# Altium footprint library BLE112.PcbLib: 1 footprints
Each footprint in its own frame and in the unit in brackets; x right, y up, seen from the top. Pads: shape width x height; smd on the part's side, far side on the other; paste and mask are expansions set on the pad; w line width, h text height; cw(c..) or ccw(c..) is an arc to the next point about the centre after c.
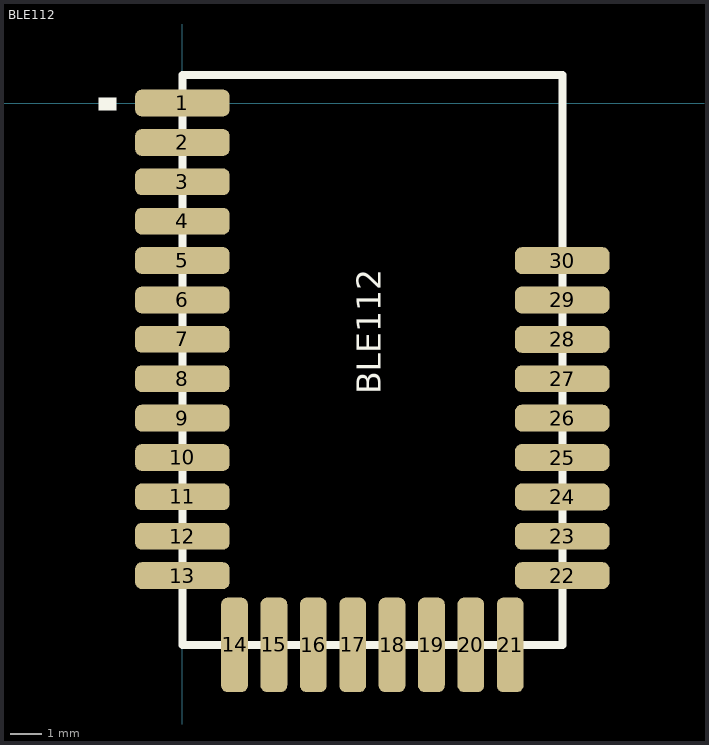
[diagram p0: the footprint, top view; thin cyan lines are the x and y axes]

## BLE112 [mm]
pads (30):
  rrect50% 3x0.85 smd: 1(0,0) 2(0,-1.25) 3(0,-2.5) 4(0,-3.75) 5(0,-5) 6(0,-6.25) 7(0,-7.5) 8(0,-8.75) 9(0,-10) 10(0,-11.25) 11(0,-12.5) 12(0,-13.75) 13(0,-15.001) 22(12.057,-15.001) 23(12.057,-13.751) 24(12.057,-12.501) 25(12.057,-11.251) 26(12.057,-10.001) 27(12.057,-8.751) 28(12.057,-7.501) 29(12.057,-6.251) 30(12.057,-5.001)
  rrect50% 0.85x3 smd: 14(1.654,-17.201) 15(2.904,-17.201) 16(4.154,-17.201) 17(5.404,-17.201) 18(6.654,-17.201) 19(7.904,-17.201) 20(9.154,-17.201) 21(10.404,-17.201)
Top Overlay:
  rectangle: -2.664,-0.231 -2.093,0.175
  lines w0.254: 1.654,-17.201 0,-17.201 ; 0,-17.201 12.057,-17.201 12.057,0.899 0,0.899 0,-17.201
  text "BLE112" at 6.294,-9.246 h0.76